# Altium integrated library DS1021-2X8SF162-B.IntLib: 1 symbol
Pins are listed as number, name and electrical type; pins without a type are passive.

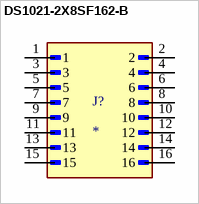
[diagram p0: symbol DS1021-2X8SF162-B]

## DS1021-2X8SF162-B
designator J?
16 positions 2.54mm dual row vertical pin header through hole; MF: Connfly; MP: DS1021-2X8SF162-B; SnapEDA_Link: https://www.snapeda.com/parts/DS1021-2X8SF162-B/Connfly/view-part/?ref=snap; Package: None; Value: *; Check_prices: https://www.snapeda.com/parts/DS1021-2X8SF162-B/Connfly/view-part/?ref=eda
footprint CONNFLY_DS1021-2X8SF162-B
pins: 1, 2, 3, 4, 5, 6, 7, 8, 9, 10, 11, 12, 13, 14, 15, 16